# Altium schematic symbol library LibraryProject.SchLib: 18 symbols
Pins are listed as number, name and electrical type; pins without a type are passive.

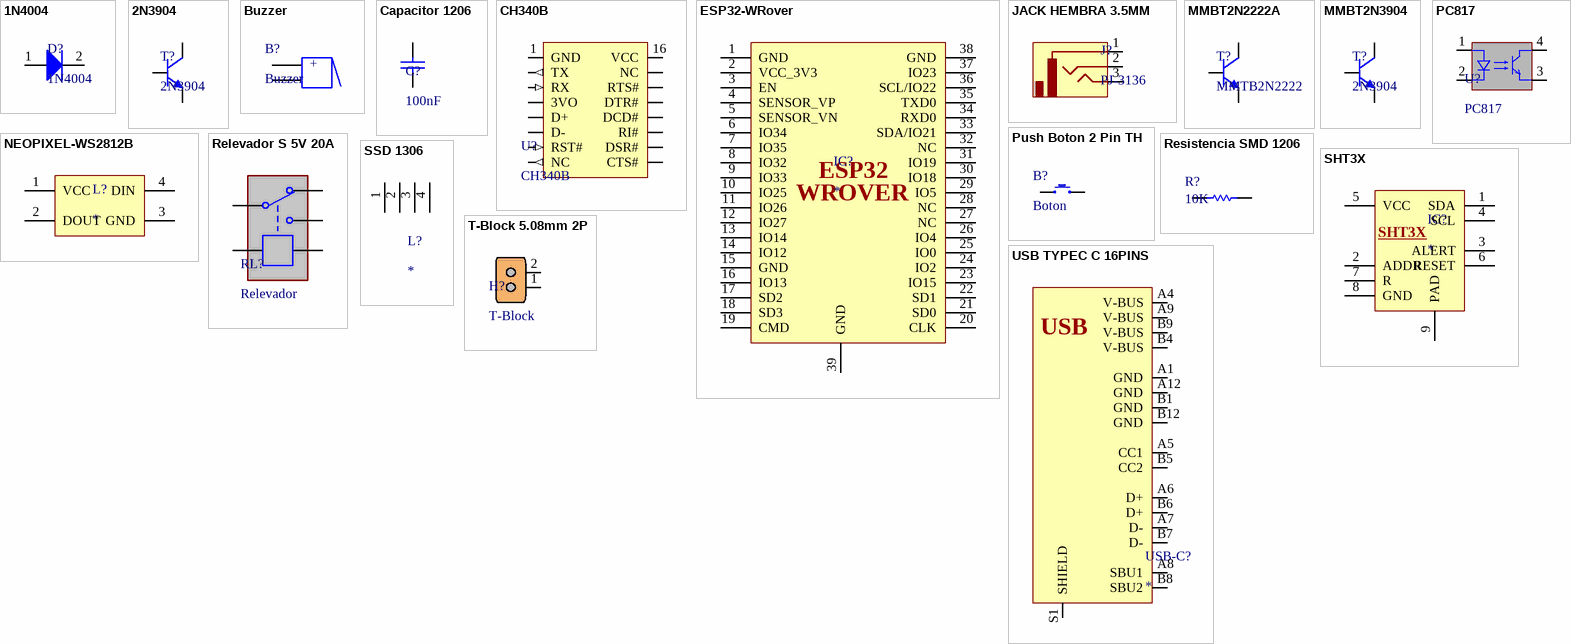
[diagram p0: symbols 1N4004 to USB TYPEC C 16PINS]

## 1N4004
designator D?
footprint 1N4004
pins: 1 Anodo, 2 Catodo

## 2N3904
designator T?
footprint NewTO-92A
pins: 1 E, 2 B, 3 C

## Buzzer
designator B?
Active Sound
footprint Buzzer (Buzzer 5V)
pins: 1, 2
text: +

## Capacitor 1206
designator C?, comment 100nF
Capacitor cerámico 1206 SMD
footprint Capacitor 1206 (Capacitor Ceramico 1206)
pins: 1, 2

## CH340B
designator U?
USB-Serial Converter
footprint SOIC 16 (SOIC 16P 1.27mm)
pins: 1 GND, 2 TX (out), 3 RX (in), 4 3VO, 5 D+, 6 D-, 7 RST# (in), 8 NC (out), 9 CTS#, 10 DSR#, 11 RI#, 12 DCD#, 13 DTR#, 14 RTS#, 15 NC, 16 VCC

## ESP32-WRover
designator IC?
ESP32-WRover 39Pins
footprint ESP32-WROVER-B
pins: 1 GND, 2 VCC_3V3, 3 EN, 4 SENSOR_VP, 5 SENSOR_VN, 6 IO34, 7 IO35, 8 IO32, 9 IO33, 10 IO25, 11 IO26, 12 IO27, 13 IO14, 14 IO12, 15 GND, 16 IO13, 17 SD2, 18 SD3, 19 CMD, 20 CLK, 21 SD0, 22 SD1, 23 IO15, 24 IO2, 25 IO0, 26 IO4, 27 NC, 28 NC, 29 IO5, 30 IO18, 31 IO19, 32 NC, 33 SDA/IO21, 34 RXD0, 35 TXD0, 36 SCL/IO22, 37 IO23, 38 GND, 39 GND
text: ESP32; WROVER

## JACK HEMBRA 3.5MM
designator J?, comment PJ-3136
PJ-3136 Jack De Audio Hembra
footprint PJ-3136-X
pins: 1, 2, 3

## MMBT2N2222A
designator T?, comment MMTB2N2222
footprint SOT23_L (SOT23, 3-Leads, Body 2.9x1.3mm, Pitch 0.95mm, Lead Span 2.3mm - Reverse Pinning, IPC High Density)
footprint SOT23_M (SOT23, 3-Leads, Body 2.9x1.3mm, Pitch 0.95mm, Lead Span 2.3mm - Reverse Pinning, IPC Low Density)
footprint SOT23_N (SOT23, 3-Leads, Body 2.9x1.3mm, Pitch 0.95mm, Lead Span 2.3mm - Reverse Pinning, IPC Medium Density)
pins: 1 B, 2 E, 3 C

## MMBT2N3904
designator T?, comment 2N3904
footprint SOT23_L (SOT23, 3-Leads, Body 2.9x1.3mm, Pitch 0.95mm, Lead Span 2.3mm - Reverse Pinning, IPC High Density)
footprint SOT23_M (SOT23, 3-Leads, Body 2.9x1.3mm, Pitch 0.95mm, Lead Span 2.3mm - Reverse Pinning, IPC Low Density)
footprint SOT23_N (SOT23, 3-Leads, Body 2.9x1.3mm, Pitch 0.95mm, Lead Span 2.3mm - Reverse Pinning, IPC Medium Density)
pins: 1 B, 2 E, 3 C

## NEOPIXEL-WS2812B
designator L?
LED NEOPIXEL WS2812B
footprint WS2812B
pins: 1 VCC, 2 DOUT, 3 GND, 4 DIN

## PC817
designator U?
Optoacoplador NPN
footprint PC817 (OPTOACOPLADOR)
pins: 1 A, 2 K, 3 E, 4 C

## Push Boton 2 Pin TH
designator B?, comment Boton
Micro Push TH
footprint Push Boton 2P C (Push Boton TH 6x4 2 pines cortos)
pins: 1 27, 2 28

## Relevador S 5V 20A
designator RL?, comment Relevador
Relevador Mini
footprint Relevador Mini 20A
pins: 1, 2, 3, 4, 5

## Resistencia SMD 1206
designator R?, comment 10K
Resistencia SMD 1206
footprint Resistencia 1206 (Resistencia 1206 SMD)
pins: 1 A, 2 B

## SHT3X
designator IC?
SHT3X
footprint DFN-8_DD
pins: 1 SDA, 2 ADDR, 3 ALERT, 4 SCL, 5 VCC, 6 RESET, 7 R, 8 GND, 9 PAD

## SSD 1306
designator L?
Pantalla OLED 124x64
footprint OLEDSSD1306
pins: 1, 2, 3, 4

## T-Block 5.08mm 2P
designator H?, comment T-Block
Terminal de Bloque 2P 5.08mm
footprint TBLOCK-2ORANGE (Terminal Block, 24A 600V, Pitch 5.08mm, 2 Positions, Screw Connection)
pins: 1, 2

## USB TYPEC C 16PINS
designator USB-C?
USB Type C 16 Pins
footprint USB-TYPE_C-16
pins: A1 GND, A4 V-BUS, A5 CC1, A6 D+, A7 D-, A8 SBU1, A9 V-BUS, A12 GND, B1 GND, B4 V-BUS, B5 CC2, B6 D+, B7 D-, B8 SBU2, B9 V-BUS, B12 GND, S1 SHIELD
text: USB